# Altium schematic symbol library HC_SR04_Module.SchLib: 1 symbol
Pins are listed as number, name and electrical type; pins without a type are passive.

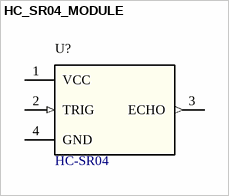
[diagram p0: symbol HC_SR04_MODULE]

## HC_SR04_MODULE
designator U?, comment HC-SR04
HC-SR04 four-pin ultrasonic ranging module, 5 V; Datasheet: https://cdn.sparkfun.com/datasheets/Sensors/Proximity/HCSR04.pdf; Mounting: Vertical module; supplied right-angle header; sensor faces -Y
footprint HC_SR04_VERTICAL_1X4_P254
pins: 1 VCC (power), 2 TRIG (in), 3 ECHO (out), 4 GND (power)